# Altium schematic symbol library R-CRCW0603220KJNEA.Schlib: 1 symbol
Pins are listed as number, name and electrical type; pins without a type are passive.

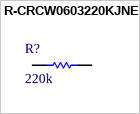
[diagram p0: symbol R-CRCW0603220KJNEA]

## R-CRCW0603220KJNEA
designator R?, comment 220k
Thick Film Resistors - SMD 1/10watt 220Kohms 5%
pins: 1, 2